# EAGLE library part A2500R24A (library neels)
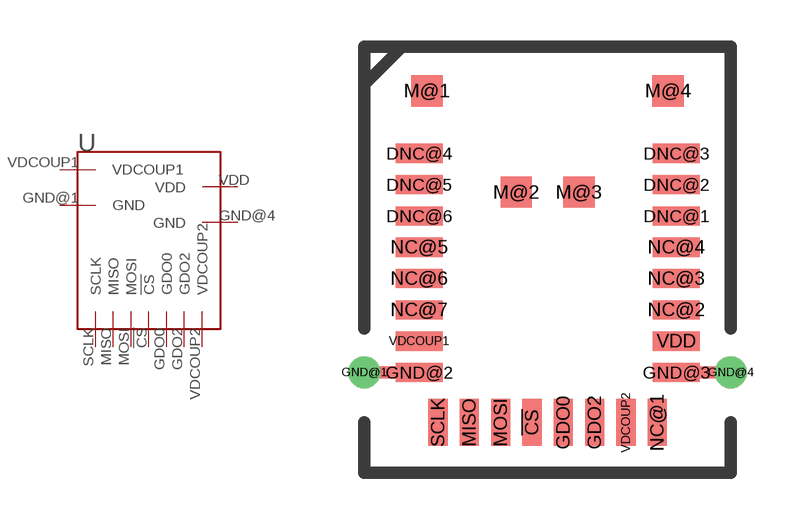
[diagram p3: symbol with the pads of A2500R24A; footprint A2500R24A]

Designator prefix -

## A2500R24A  [A2500R24A]
!CS  !CS
GDO0  GDO0
GDO2  GDO2
GND@1  GND
GND@4  GND
MISO  MISO
MOSI  MOSI
SCLK  SCLK
VDCOUP1  VDCOUP1
VDCOUP2  VDCOUP2
VDD  VDD

## Footprint A2500R24A (pad centres in mm)
smd 0.61 x 1.5: !CS 3,0; GDO0 4,0; GDO2 5,0; MISO 1,0; MOSI 2,0; NC@1 7,0; SCLK 0,0; VDCOUP2 6,0
smd 1.5 x 0.61: DNC@1 7.605,6.6; DNC@2 7.605,7.6; DNC@3 7.605,8.6; DNC@4 -0.605,8.6; DNC@5 -0.605,7.6; DNC@6 -0.605,6.6; GND@2 -0.605,1.6; GND@3 7.605,1.6; NC@2 7.605,3.6; NC@3 7.605,4.6; NC@4 7.605,5.6; NC@5 -0.605,5.6; NC@6 -0.605,4.6; NC@7 -0.605,3.6; VDCOUP1 -0.605,2.6; VDD 7.605,2.6
drill 0.5: GND@1 -2.355,1.6; GND@4 9.345,1.6
smd 1 x 1: M@1 -0.355,10.6; M@2 2.495,7.36; M@3 4.495,7.36; M@4 7.345,10.6